# EAGLE library part TP5100_MODULE (library CustomParts)
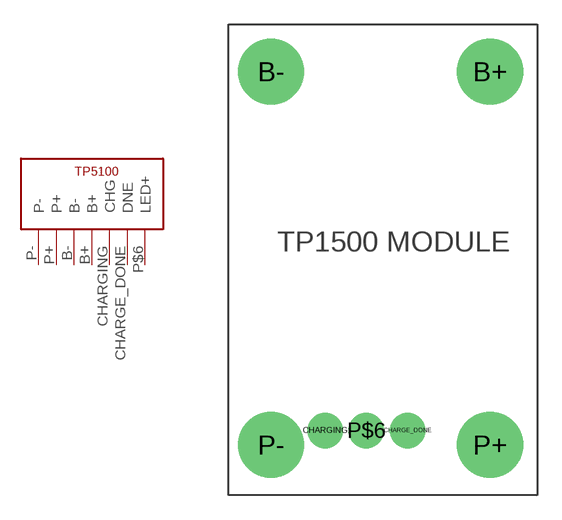
[diagram p1: symbol with the pads of TP5100_MODULE; footprint TP5100_MODULE]

Designator prefix -

## TP5100_MODULE  [TP5100_MODULE]
B+  B+
B-  B-
CHARGE_DONE  DNE
CHARGING  CHG
P$6  LED+
P+  P+
P-  P-

## Footprint TP5100_MODULE (pad centres in mm)
drill 2.032 pad 4.064: B+ 7.101,11.098; B- -6.399,11.098; P+ 7.101,-11.902; P- -6.399,-11.902
drill 1.016 pad 2.184: CHARGE_DONE 2.021,-11.012; CHARGING -3.059,-11.012; P$6 -0.519,-11.012